# Altium integrated library Atmel Automotive.IntLib: 43 symbols (part 1 of 2)
Pins are listed as number, name and electrical type; pins without a type are passive.

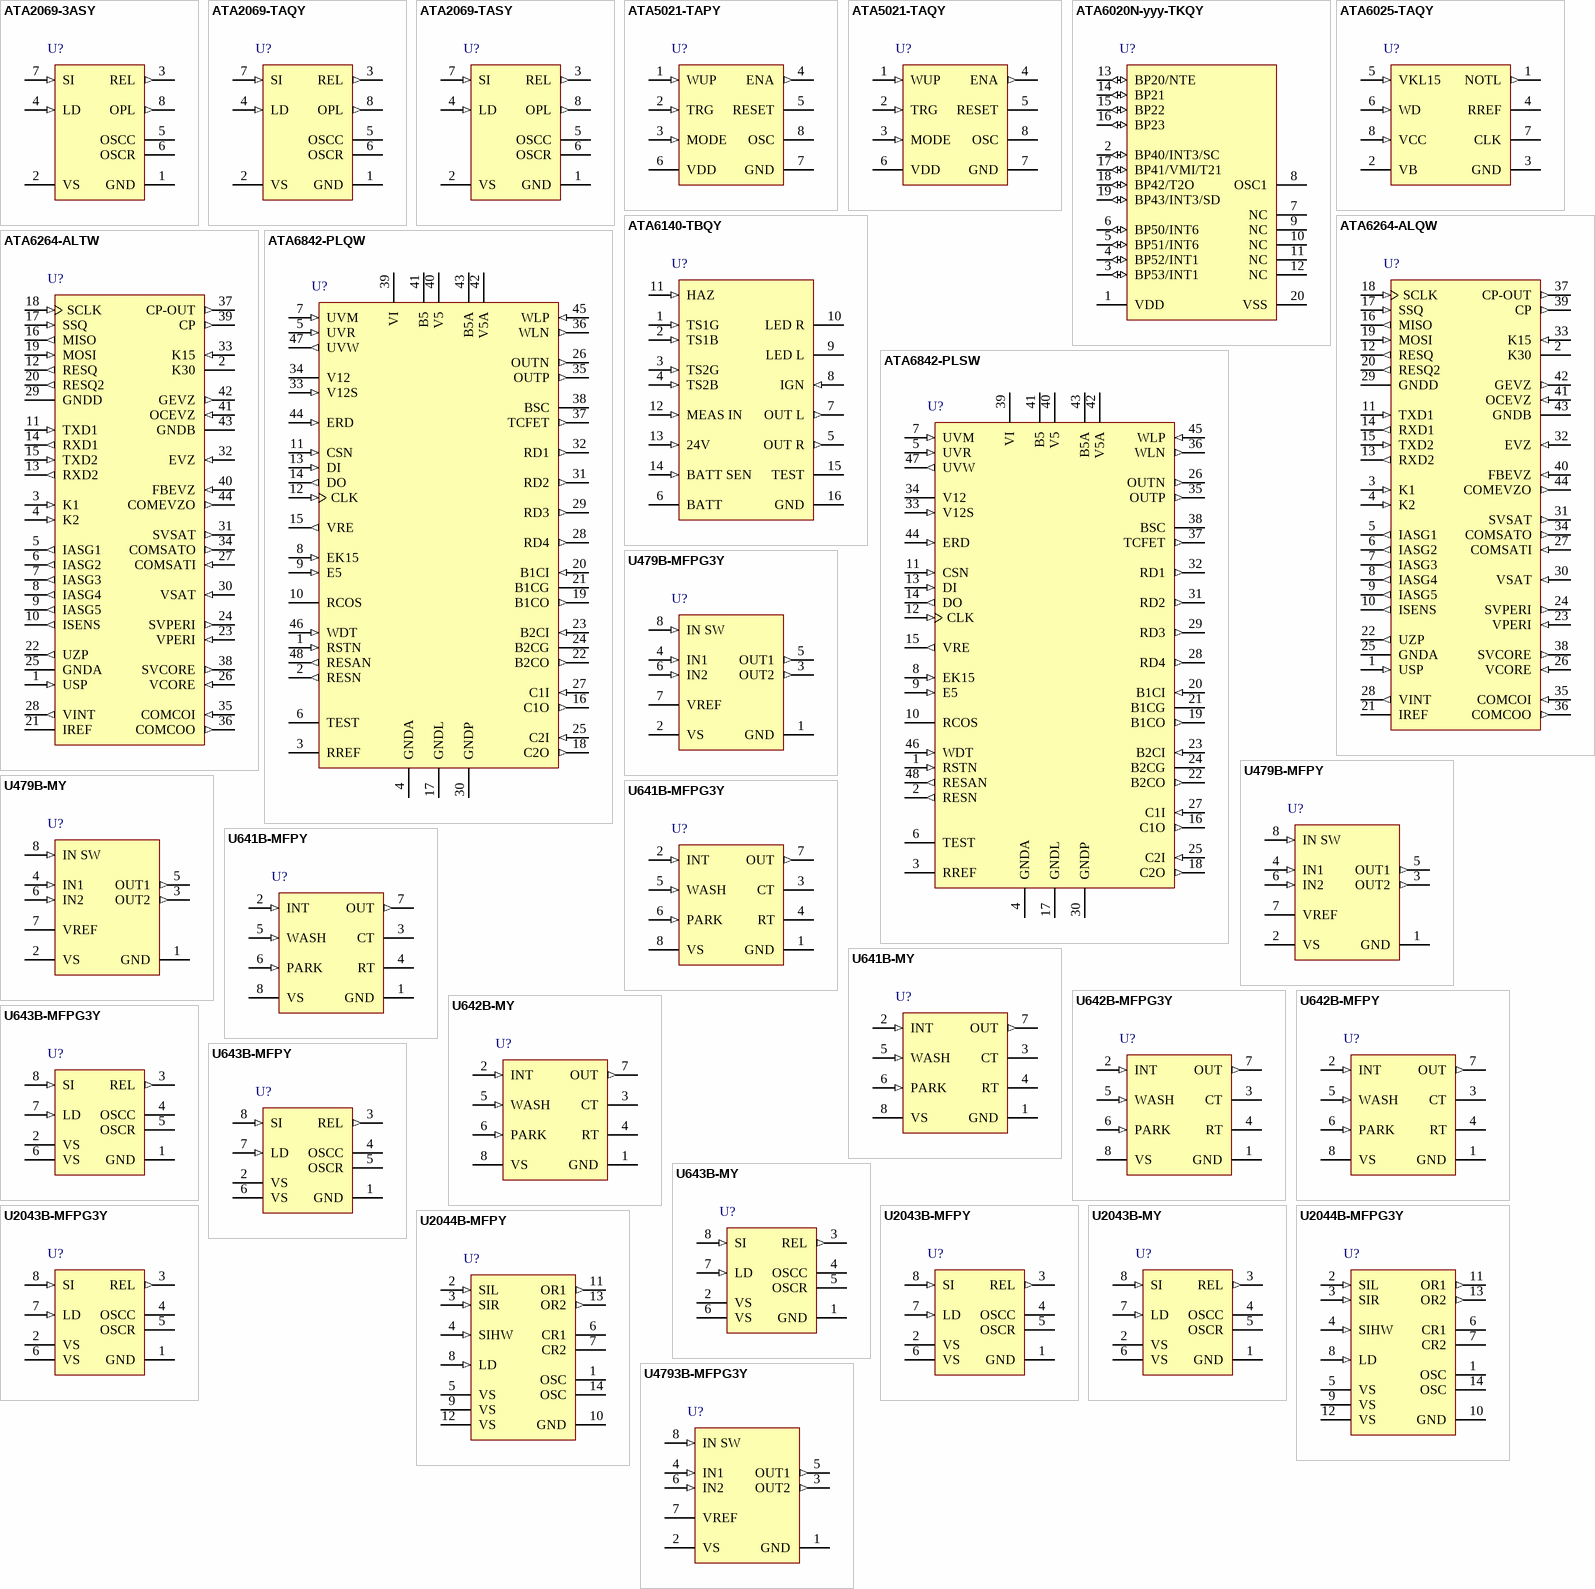
[diagram p0: symbols ATA2069-3ASY to U4793B-MFPG3Y]

## ATA2069-3ASY
designator U?
Flasher with Trailer Control, DIP8 Pkg, Tubed, Pb-Free; Published: 20-Sep-2010; DatasheetVersion: revC, Oct-2007; PackageVersion: rev1, Jan-2002; PackageReference: DIP8; Publisher: Altium Limited; PackageDescription: DIP, 8-Pin, Row Spacing 7.62 mm, Pitch 2.54 mm; Supplier 1: Digi-Key; Supplier Part Number 1: ATA2069-3ASY-ND; Supplier 2: Mouser; Supplier Part Number 2: 556-ATA2069-3ASY; ComponentLink1Description: Manufacturer Link; ComponentLink1URL: http://www.atmel.com/products/auto/default.asp?; ComponentLink2Description: ATA2069 Datasheet; ComponentLink2URL: http://www.atmel.com/dyn/resources/prod_documents/doc4917.pdf; ComponentLink3Description: Atmel.com Home; ComponentLink3URL: http://www.atmel.com
footprint DIP8 (DIP, 8-Leads, Row Spacing 7.62mm, Pitch 2.54mm, Body 9.65x6.3mm)
pins: 1 GND (power), 2 VS (power), 3 REL (out), 4 LD (in), 5 OSCC, 6 OSCR, 7 SI (in), 8 OPL (out)

## ATA2069-TAQY
designator U?
Flasher with Trailer Control, SO8 Pkg, Taped and Reeled, Pb-Free; Published: 20-Sep-2010; DatasheetVersion: revC, Oct-2007; PackageVersion: rev1, Aug-2006; PackageReference: SO8; Publisher: Altium Limited; PackageDescription: 8-Pin Small Outline Integrated Circuit 1.27 mm Pitch; Supplier 1: Digi-Key; Supplier Part Number 1: ATA2069-TAQY-ND; Supplier 2: Mouser; Supplier Part Number 2: 556-ATA2069-TAQY; ComponentLink1Description: Manufacturer Link; ComponentLink1URL: http://www.atmel.com/products/auto/default.asp?; ComponentLink2Description: ATA2069 Datasheet; ComponentLink2URL: http://www.atmel.com/dyn/resources/prod_documents/doc4917.pdf; ComponentLink3Description: Atmel.com Home; ComponentLink3URL: http://www.atmel.com
footprint SO8_N (SOIC, 8-Leads, Body 4.9x3.8mm, Pitch 1.27mm, IPC Medium Density)
footprint SO8_L (SOIC, 8-Leads, Body 4.9x3.8mm, Pitch 1.27mm, IPC High Density)
footprint SO8_M (SOIC, 8-Leads, Body 4.9x3.8mm, Pitch 1.27mm, IPC Low Density)
pins: 1 GND (power), 2 VS (power), 3 REL (out), 4 LD (in), 5 OSCC, 6 OSCR, 7 SI (in), 8 OPL (out)

## ATA2069-TASY
designator U?
Flasher with Trailer Control, SO8 Pkg, Tubed, Pb-Free; Published: 20-Sep-2010; DatasheetVersion: revC, Oct-2007; PackageVersion: rev1, Aug-2006; PackageReference: SO8; Publisher: Altium Limited; PackageDescription: 8-Pin Small Outline Integrated Circuit 1.27 mm Pitch; ComponentLink1Description: Manufacturer Link; ComponentLink1URL: http://www.atmel.com/products/auto/default.asp?; ComponentLink2Description: ATA2069 Datasheet; ComponentLink2URL: http://www.atmel.com/dyn/resources/prod_documents/doc4917.pdf; ComponentLink3Description: Atmel.com Home; ComponentLink3URL: http://www.atmel.com
footprint SO8_N (SOIC, 8-Leads, Body 4.9x3.8mm, Pitch 1.27mm, IPC Medium Density)
footprint SO8_L (SOIC, 8-Leads, Body 4.9x3.8mm, Pitch 1.27mm, IPC High Density)
footprint SO8_M (SOIC, 8-Leads, Body 4.9x3.8mm, Pitch 1.27mm, IPC Low Density)
pins: 1 GND (power), 2 VS (power), 3 REL (out), 4 LD (in), 5 OSCC, 6 OSCR, 7 SI (in), 8 OPL (out)

## ATA5021-TAPY
designator U?
Digital Window Watchdog Timer, SO8 Pkg, Taped and Reeled, Pb-Free, Small Reel; Published: 20-Sep-2010; DatasheetVersion: revC, Sep-2009; PackageVersion: rev1, Aug-2006; PackageReference: SO8; Publisher: Altium Limited; PackageDescription: 8-Pin Small Outline Integrated Circuit 1.27 mm Pitch; Supplier 1: Digi-Key; Supplier Part Number 1: ATA5021-TAPY-ND; Supplier 2: Mouser; Supplier Part Number 2: 556-ATA5021-TAPY; ComponentLink1Description: Manufacturer Link; ComponentLink1URL: http://www.atmel.com/products/auto/default.asp?; ComponentLink2Description: ATA5021 Datasheet; ComponentLink2URL: http://www.atmel.com/dyn/resources/prod_documents/doc9145.pdf; ComponentLink3Description: Atmel.com Home; ComponentLink3URL: http://www.atmel.com
footprint SO8_N (SOIC, 8-Leads, Body 4.9x3.8mm, Pitch 1.27mm, IPC Medium Density)
footprint SO8_L (SOIC, 8-Leads, Body 4.9x3.8mm, Pitch 1.27mm, IPC High Density)
footprint SO8_M (SOIC, 8-Leads, Body 4.9x3.8mm, Pitch 1.27mm, IPC Low Density)
pins: 1 WUP (in), 2 TRG (in), 3 MODE (in), 4 ENA (out), 5 RESET (oc), 6 VDD (power), 7 GND (power), 8 OSC

## ATA5021-TAQY
designator U?
Digital Window Watchdog Timer, SO8 Pkg, Taped and Reeled, Pb-Free, Big Reel; Published: 20-Sep-2010; DatasheetVersion: revC, Sep-2009; PackageVersion: rev1, Aug-2006; PackageReference: SO8; Publisher: Altium Limited; PackageDescription: 8-Pin Small Outline Integrated Circuit 1.27 mm Pitch; Supplier 1: Digi-Key; Supplier Part Number 1: ATA5021-TAQY-ND; Supplier 2: Mouser; Supplier Part Number 2: 556-ATA5021-TAQY; ComponentLink1Description: Manufacturer Link; ComponentLink1URL: http://www.atmel.com/products/auto/default.asp?; ComponentLink2Description: ATA5021 Datasheet; ComponentLink2URL: http://www.atmel.com/dyn/resources/prod_documents/doc9145.pdf; ComponentLink3Description: Atmel.com Home; ComponentLink3URL: http://www.atmel.com
footprint SO8_N (SOIC, 8-Leads, Body 4.9x3.8mm, Pitch 1.27mm, IPC Medium Density)
footprint SO8_L (SOIC, 8-Leads, Body 4.9x3.8mm, Pitch 1.27mm, IPC High Density)
footprint SO8_M (SOIC, 8-Leads, Body 4.9x3.8mm, Pitch 1.27mm, IPC Low Density)
pins: 1 WUP (in), 2 TRG (in), 3 MODE (in), 4 ENA (out), 5 RESET (oc), 6 VDD (power), 7 GND (power), 8 OSC

## ATA6020N-yyy-TKQY
designator U?
Low-Current Microcontroller for Watchdog Function, SSO20 Pkg, Taped and Reeled; Published: 20-Sep-2010; DatasheetVersion: revD, Sep-2005; PackageVersion: 2005; PackageReference: SSO20; Publisher: Altium Limited; PackageDescription: 20-Pin Shrink SOP, 6.6 x 4.4 x 1.3 mm Body, 0.65 mm Pitch; ComponentLink1Description: Manufacturer Link; ComponentLink1URL: http://www.atmel.com/products/auto/default.asp?; ComponentLink2Description: ATA6020N Datasheet; ComponentLink2URL: http://www.atmel.com/dyn/resources/prod_documents/doc4708.pdf; ComponentLink3Description: Atmel.com Home; ComponentLink3URL: http://www.atmel.com
footprint SSO20_N (SOP, 20-Leads, Body 6.6x4.4mm, Pitch 0.65mm, IPC Medium Density)
footprint SSO20_L (SOP, 20-Leads, Body 6.6x4.4mm, Pitch 0.65mm, IPC High Density)
footprint SSO20_M (SOP, 20-Leads, Body 6.6x4.4mm, Pitch 0.65mm, IPC Low Density)
pins: 1 VDD (power), 2 BP40/INT3/SC (io), 3 BP53/INT1 (io), 4 BP52/INT1 (io), 5 BP51/INT6 (io), 6 BP50/INT6 (io), 7 NC, 8 OSC1, 9 NC, 10 NC, 11 NC, 12 NC, 13 BP20/NTE (io), 14 BP21 (io), 15 BP22 (io), 16 BP23 (io), 17 BP41/VMI/T21 (io), 18 BP42/T2O (io), 19 BP43/INT3/SD (io), 20 VSS (power)

## ATA6025-TAQY
designator U?
Watchdog IC with Fail-Safe Out, Voltage Monitors, Low-Power Standby Mode, SO8 Pkg, Taped and Reeled, Pb-Free; Published: 20-Sep-2010; DatasheetVersion: revC, Sep-2005; PackageVersion: rev1, Aug-2006; PackageReference: SO8; Publisher: Altium Limited; PackageDescription: 8-Pin Small Outline Integrated Circuit 1.27 mm Pitch; Supplier 1: Digi-Key; Supplier Part Number 1: ATA6025-TAQY-ND; Supplier 2: Mouser; Supplier Part Number 2: 556-ATA6025TAQY; ComponentLink1Description: Manufacturer Link; ComponentLink1URL: http://www.atmel.com/products/auto/default.asp?; ComponentLink2Description: ATA6025 Datasheet; ComponentLink2URL: http://www.atmel.com/dyn/resources/prod_documents/doc4716.pdf; ComponentLink3Description: Atmel.com Home; ComponentLink3URL: http://www.atmel.com
footprint SO8_N (SOIC, 8-Leads, Body 4.9x3.8mm, Pitch 1.27mm, IPC Medium Density)
footprint SO8_L (SOIC, 8-Leads, Body 4.9x3.8mm, Pitch 1.27mm, IPC High Density)
footprint SO8_M (SOIC, 8-Leads, Body 4.9x3.8mm, Pitch 1.27mm, IPC Low Density)
pins: 1 NOTL (out), 2 VB (power), 3 GND (power), 4 RREF, 5 VKL15 (in), 6 WD (in), 7 CLK (oc), 8 VCC (in)

## ATA6140-TBQY
designator U?
Twin Relay Flasher for 12/24V Applications, SO16 Pkg, Taped and Reeled, Pb-Free; Published: 20-Sep-2010; DatasheetVersion: revE, Sep-2005; PackageVersion: 2007; PackageReference: SO16; Publisher: Altium Limited; PackageDescription: 16-Pin Small Outline Integrated Circuit 1.27 mm Pitch; Supplier 1: Digi-Key; Supplier Part Number 1: ATA6140-TBQY-ND; Supplier 2: Mouser; Supplier Part Number 2: 556-ATA6140TBQY; ComponentLink1Description: Manufacturer Link; ComponentLink1URL: http://www.atmel.com/products/auto/default.asp?; ComponentLink2Description: ATA6140 Datasheet; ComponentLink2URL: http://www.atmel.com/dyn/resources/prod_documents/doc4560.pdf; ComponentLink3Description: Atmel.com Home; ComponentLink3URL: http://www.atmel.com
footprint SO16_N (SOIC, 16-Leads, Body 9.9x3.8mm, Pitch 1.27mm, IPC Medium Density)
footprint SO16_L (SOIC, 16-Leads, Body 9.9x3.8mm, Pitch 1.27mm, IPC High Density)
footprint SO16_M (SOIC, 16-Leads, Body 9.9x3.8mm, Pitch 1.27mm, IPC Low Density)
pins: 1 TS1G (in), 2 TS1B (in), 3 TS2G (in), 4 TS2B (in), 5 OUT R (out), 6 BATT (power), 7 OUT L (out), 8 IGN (in), 9 LED L, 10 LED R, 11 HAZ (in), 12 MEAS IN (in), 13 24V (in), 14 BATT SEN (in), 15 TEST, 16 GND (power)

## ATA6264-ALQW
designator U?
Airbag Power Supply IC, P-TQFP44 Pkg, Taped and Reeled; Published: 20-Sep-2010; DatasheetVersion: revB, Jan-2007; PackageVersion: rev.1, Nov-2006; PackageReference: P-TQFP44; Publisher: Altium Limited; PackageDescription: 44-Pin Thin Quad Flat Pack, 10 x 10 x 1.4 mm Body, 0.8 mm Pitch; Code_JEDEC: MO-112; ComponentLink1Description: Manufacturer Link; ComponentLink1URL: http://www.atmel.com/products/auto/default.asp?; ComponentLink2Description: ATA6264 Datasheet; ComponentLink2URL: http://www.atmel.com/dyn/resources/prod_documents/doc4929.pdf; ComponentLink3Description: Atmel.com Home; ComponentLink3URL: http://www.atmel.com
footprint P-TQFP44_N (Thin QFP, 44-Leads, Body 10x10mm, Pitch 0.8mm, IPC Medium Density)
footprint P-TQFP44_L (Thin QFP, 44-Leads, Body 10x10mm, Pitch 0.8mm, IPC High Density)
footprint P-TQFP44_M (Thin QFP, 44-Leads, Body 10x10mm, Pitch 0.8mm, IPC Low Density)
pins: 1 USP (in) "Comparator input", 2 K30 "Continuous connection to the car battery", 3 K1 (in) "Bus line of 1st ISO9141 interface", 4 K2 (in) "Bus line of 2nd ISO9141 interface", 5 IASG1 (out) "Output of voltage source 1", 6 IASG2 (out) "Output of voltage source 2", 7 IASG3 (out) "Output of voltage source 3", 8 IASG4 (out) "Output of voltage source 4", 9 IASG5 (out) "Output of voltage source 5", 10 ISENS (out) "Output of the current mirror from the IASGx interface", 11 TXD1 (in) "Data input of the 1st ISO9141 interface", 12 RESQ (out) "Reset output", 13 RXD2 (out) "Data output of the 2nd ISO9141 interface", 14 RXD1 (out) "Data output of the 2nd ISO9141 interface", 15 TXD2 (in) "Data input of the 2nd ISO9141 interface", 16 MISO (out) "Data output of the serial interface", 17 SSQ (in) "Chip select of the serial interface", 18 SCLK (in) "Clock input of the serial interface", 19 MOSI (in) "Data input of the serial interface", 20 RESQ2 (out) "Redundant reset output", 21 IREF "Connection for the external reference resistor", 22 UZP (out) "Analog measurement output", 23 VPERI (in) "Input for the VPERI regulator, internally used VPERI supply", 24 SVPERI (out) "Output of VPERI regulator power transistor", 25 GNDA "Analog GND", 26 VCORE (in) "Input for VCORE regulator", 27 COMSATI (in) "Input of the VSAT externally compensated error amplifier", 28 VINT (out) "Output of internal supply voltage", 29 GNDD "Digital GND", 30 VSAT (in) "Input for VSAT regulator, internally used VSAT supply", 31 SVSAT (out) "Output of VSAT regulator power transistor", 32 EVZ (in) "Input for EVZ regulator, internally used EVZ supply", 33 K15 (in) "Connection to car battery via the ignition key", 34 COMSATO (out) "Output of the VSAT externally compensated error amplifier", 35 COMCOI (in) "Input of the VCORE externally compensated error amplifier", 36 COMCOO (out) "Output of the VCORE externally compensated error amplifier", 37 CP-OUT (out) "Switchable output of charge pump voltage", 38 SVCORE (out) "Output of VCORE regulator power transistor", 39 CP (out) "Charge pump output", 40 FBEVZ (in) "Input for external resistor divider to adjust EVZ voltage", 41 OCEVZ (in) "Input for over current measurement of the EVZ regulator", 42 GEVZ (out) "Gate driver output for the external FET of the EVZ regulator", 43 GNDB "GND connection of all power stages", 44 COMEVZO (out) "Output of the EVZ externally compensated error amplifier"

## ATA6264-ALTW
designator U?
Airbag Power Supply IC, P-TQFP44 Pkg, Tray; Published: 20-Sep-2010; DatasheetVersion: revB, Jan-2007; PackageVersion: rev.1, Nov-2006; PackageReference: P-TQFP44; Publisher: Altium Limited; PackageDescription: 44-Pin Thin Quad Flat Pack, 10 x 10 x 1.4 mm Body, 0.8 mm Pitch; Code_JEDEC: MO-112; ComponentLink1Description: Manufacturer Link; ComponentLink1URL: http://www.atmel.com/products/auto/default.asp?; ComponentLink2Description: ATA6264 Datasheet; ComponentLink2URL: http://www.atmel.com/dyn/resources/prod_documents/doc4929.pdf; ComponentLink3Description: Atmel.com Home; ComponentLink3URL: http://www.atmel.com
footprint P-TQFP44_N (Thin QFP, 44-Leads, Body 10x10mm, Pitch 0.8mm, IPC Medium Density)
footprint P-TQFP44_L (Thin QFP, 44-Leads, Body 10x10mm, Pitch 0.8mm, IPC High Density)
footprint P-TQFP44_M (Thin QFP, 44-Leads, Body 10x10mm, Pitch 0.8mm, IPC Low Density)
pins: 1 USP (in) "Comparator input", 2 K30 "Continuous connection to the car battery", 3 K1 (in) "Bus line of 1st ISO9141 interface", 4 K2 (in) "Bus line of 2nd ISO9141 interface", 5 IASG1 (out) "Output of voltage source 1", 6 IASG2 (out) "Output of voltage source 2", 7 IASG3 (out) "Output of voltage source 3", 8 IASG4 (out) "Output of voltage source 4", 9 IASG5 (out) "Output of voltage source 5", 10 ISENS (out) "Output of the current mirror from the IASGx interface", 11 TXD1 (in) "Data input of the 1st ISO9141 interface", 12 RESQ (out) "Reset output", 13 RXD2 (out) "Data output of the 2nd ISO9141 interface", 14 RXD1 (out) "Data output of the 2nd ISO9141 interface", 15 TXD2 (in) "Data input of the 2nd ISO9141 interface", 16 MISO (out) "Data output of the serial interface", 17 SSQ (in) "Chip select of the serial interface", 18 SCLK (in) "Clock input of the serial interface", 19 MOSI (in) "Data input of the serial interface", 20 RESQ2 (out) "Redundant reset output", 21 IREF "Connection for the external reference resistor", 22 UZP (out) "Analog measurement output", 23 VPERI (in) "Input for the VPERI regulator, internally used VPERI supply", 24 SVPERI (out) "Output of VPERI regulator power transistor", 25 GNDA "Analog GND", 26 VCORE (in) "Input for VCORE regulator", 27 COMSATI (in) "Input of the VSAT externally compensated error amplifier", 28 VINT (out) "Output of internal supply voltage", 29 GNDD "Digital GND", 30 VSAT (in) "Input for VSAT regulator, internally used VSAT supply", 31 SVSAT (out) "Output of VSAT regulator power transistor", 32 EVZ (in) "Input for EVZ regulator, internally used EVZ supply", 33 K15 (in) "Connection to car battery via the ignition key", 34 COMSATO (out) "Output of the VSAT externally compensated error amplifier", 35 COMCOI (in) "Input of the VCORE externally compensated error amplifier", 36 COMCOO (out) "Output of the VCORE externally compensated error amplifier", 37 CP-OUT (out) "Switchable output of charge pump voltage", 38 SVCORE (out) "Output of VCORE regulator power transistor", 39 CP (out) "Charge pump output", 40 FBEVZ (in) "Input for external resistor divider to adjust EVZ voltage", 41 OCEVZ (in) "Input for over current measurement of the EVZ regulator", 42 GEVZ (out) "Gate driver output for the external FET of the EVZ regulator", 43 GNDB "GND connection of all power stages", 44 COMEVZO (out) "Output of the EVZ externally compensated error amplifier"

## ATA6842-PLQW
designator U?
Fail-safe System IC with 4-channel Relay Driver, Power Supply, Watchdog, QFN48 Pkg, Taped and Reeled, Pb-Free; Published: 20-Sep-2010; DatasheetVersion: revB, Jul-2007; PackageVersion: 2007; PackageReference: QFN_48; Publisher: Altium Limited; PackageDescription: 48-Pin Very Thin QFN, 7 x 7 mm Body, 0.5 mm Pitch, 4.5 x 4.5 mm Exposed Pad; Supplier 1: Mouser; Supplier Part Number 1: 556-ATA6842-PLQW; Code_JEDEC: MO-220; ComponentLink1Description: Manufacturer Link; ComponentLink1URL: http://www.atmel.com/products/auto/default.asp?; ComponentLink2Description: ATA6842 Datasheet; ComponentLink2URL: http://www.atmel.com/dyn/resources/prod_documents/doc4964.pdf; ComponentLink3Description: Atmel.com Home; ComponentLink3URL: http://www.atmel.com
footprint QFN_48_N (QFN, 48-Leads, Body 7x7mm, Pitch 0.5mm, IPC Medium Density)
footprint QFN_48_L (QFN, 48-Leads, Body 7x7mm, Pitch 0.5mm, IPC High Density)
footprint QFN_48_M (QFN, 48-Leads, Body 7x7mm, Pitch 0.5mm, IPC Low Density)
pins: 1 RSTN (in) "Reset input", 2 RESN (out) "Reset output", 3 RREF "Reference resistor", 4 GNDA "Analog ground", 5 UVR (in) "Undervoltage reference input", 6 TEST "Test", 7 UVM (in) "Undervoltage measurement", 8 EK15 (in) "Enable (K15 based)", 9 E5 (in) "Enable (5V based)", 10 RCOS "Resistor-capacitor oscillator", 11 CSN (in) "Chip-select input", 12 CLK (in) "Clock input", 13 DI (in) "Data input", 14 DO (out) "Data output", 15 VRE (out) "External voltage regulator output", 16 C1O (out) "Comparator 1 output", 17 GNDL "Logic ground", 18 C2O (out) "Comparator 2 output", 19 B1CO (out) "Bridge 1 current output", 20 B1CI (in) "Bridge 1 current input", 21 B1CG "Bridge 1 current ground", 22 B2CO (out) "Bridge 2 current output", 23 B2CI (in) "Bridge 2 current input", 24 B2CG "Bridge 2 current ground", 25 C2I (in) "Comparator 2 input", 26 OUTN (out) "Low-side driver output", 27 C1I (in) "Comparator 1 input", 28 RD4 (out) "Relay driver 4 output", 29 RD3 (out) "Relay driver 3 output", 30 GNDP "Power ground", 31 RD2 (out) "Relay driver 2 output", 32 RD1 (out) "Relay driver 1 output", 33 V12S (in) "12V switch", 34 V12 "12V supply voltage", 35 OUTP (out) "High-side driver output", 36 WLN (out) "Warning lamp output", 37 TCFET (out) "Test current FET", 38 BSC "Bootstrap capacitor", 39 VI "Internal", 40 V5 "5V supply", 41 B5 "Base 5V supply", 42 V5A "Auxiliary 5V supply", 43 B5A "Base auxiliary 5V supply", 44 ERD (in) "Enable relay driver", 45 WLP (in) "Warning lamp polarity input", 46 WDT (in) "Watchdog trigger input", 47 UVW (out) "Undervoltage warning output", 48 RESAN (out) "Auxiliary reset output"

## ATA6842-PLSW
designator U?
Fail-safe System IC with 4-channel Relay Driver, Power Supply, Watchdog, QFN48 Pkg, Tubed, Pb-Free; Published: 20-Sep-2010; DatasheetVersion: revB, Jul-2007; PackageVersion: 2007; PackageReference: QFN_48; Publisher: Altium Limited; PackageDescription: 48-Pin Very Thin QFN, 7 x 7 mm Body, 0.5 mm Pitch, 4.5 x 4.5 mm Exposed Pad; Code_JEDEC: MO-220; ComponentLink1Description: Manufacturer Link; ComponentLink1URL: http://www.atmel.com/products/auto/default.asp?; ComponentLink2Description: ATA6842 Datasheet; ComponentLink2URL: http://www.atmel.com/dyn/resources/prod_documents/doc4964.pdf; ComponentLink3Description: Atmel.com Home; ComponentLink3URL: http://www.atmel.com
footprint QFN_48_N (QFN, 48-Leads, Body 7x7mm, Pitch 0.5mm, IPC Medium Density)
footprint QFN_48_L (QFN, 48-Leads, Body 7x7mm, Pitch 0.5mm, IPC High Density)
footprint QFN_48_M (QFN, 48-Leads, Body 7x7mm, Pitch 0.5mm, IPC Low Density)
pins: 1 RSTN (in) "Reset input", 2 RESN (out) "Reset output", 3 RREF "Reference resistor", 4 GNDA "Analog ground", 5 UVR (in) "Undervoltage reference input", 6 TEST "Test", 7 UVM (in) "Undervoltage measurement", 8 EK15 (in) "Enable (K15 based)", 9 E5 (in) "Enable (5V based)", 10 RCOS "Resistor-capacitor oscillator", 11 CSN (in) "Chip-select input", 12 CLK (in) "Clock input", 13 DI (in) "Data input", 14 DO (out) "Data output", 15 VRE (out) "External voltage regulator output", 16 C1O (out) "Comparator 1 output", 17 GNDL "Logic ground", 18 C2O (out) "Comparator 2 output", 19 B1CO (out) "Bridge 1 current output", 20 B1CI (in) "Bridge 1 current input", 21 B1CG "Bridge 1 current ground", 22 B2CO (out) "Bridge 2 current output", 23 B2CI (in) "Bridge 2 current input", 24 B2CG "Bridge 2 current ground", 25 C2I (in) "Comparator 2 input", 26 OUTN (out) "Low-side driver output", 27 C1I (in) "Comparator 1 input", 28 RD4 (out) "Relay driver 4 output", 29 RD3 (out) "Relay driver 3 output", 30 GNDP "Power ground", 31 RD2 (out) "Relay driver 2 output", 32 RD1 (out) "Relay driver 1 output", 33 V12S (in) "12V switch", 34 V12 "12V supply voltage", 35 OUTP (out) "High-side driver output", 36 WLN (out) "Warning lamp output", 37 TCFET (out) "Test current FET", 38 BSC "Bootstrap capacitor", 39 VI "Internal", 40 V5 "5V supply", 41 B5 "Base 5V supply", 42 V5A "Auxiliary 5V supply", 43 B5A "Base auxiliary 5V supply", 44 ERD (in) "Enable relay driver", 45 WLP (in) "Warning lamp polarity input", 46 WDT (in) "Watchdog trigger input", 47 UVW (out) "Undervoltage warning output", 48 RESAN (out) "Auxiliary reset output"

## U479B-MFPG3Y
designator U?
Automotive Lamp-Outage Monitor IC, SO8 Pkg, Taped and Reeled, Pb-Free; Published: 20-Sep-2010; DatasheetVersion: revB, Sep-2005; PackageVersion: rev1, Aug-2006; PackageReference: SO8; Publisher: Altium Limited; PackageDescription: 8-Pin Small Outline Integrated Circuit 1.27 mm Pitch; Supplier 1: Digi-Key; Supplier Part Number 1: U479B-MFPG3Y-ND; Supplier 2: Mouser; Supplier Part Number 2: 556-U479B-MFPG3Y; ComponentLink1Description: Manufacturer Link; ComponentLink1URL: http://www.atmel.com/products/auto/default.asp?; ComponentLink2Description: U479B Datasheet; ComponentLink2URL: http://www.atmel.com/dyn/resources/prod_documents/doc4775.pdf; ComponentLink3Description: Atmel.com Home; ComponentLink3URL: http://www.atmel.com
footprint SO8_N (SOIC, 8-Leads, Body 4.9x3.8mm, Pitch 1.27mm, IPC Medium Density)
footprint SO8_L (SOIC, 8-Leads, Body 4.9x3.8mm, Pitch 1.27mm, IPC High Density)
footprint SO8_M (SOIC, 8-Leads, Body 4.9x3.8mm, Pitch 1.27mm, IPC Low Density)
pins: 1 GND (power), 2 VS (power), 3 OUT2 (out), 4 IN1 (in), 5 OUT1 (out), 6 IN2 (in), 7 VREF (power), 8 IN SW (in)

## U479B-MFPY
designator U?
Automotive Lamp-Outage Monitor IC, SO8 Pkg, Tubed, Pb-Free; Published: 20-Sep-2010; DatasheetVersion: revB, Sep-2005; PackageVersion: rev1, Aug-2006; PackageReference: SO8; Publisher: Altium Limited; PackageDescription: 8-Pin Small Outline Integrated Circuit 1.27 mm Pitch; Supplier 1: Digi-Key; Supplier Part Number 1: U479B-MFPY-ND; Supplier 2: Mouser; Supplier Part Number 2: 556-U479B-MFPY; ComponentLink1Description: Manufacturer Link; ComponentLink1URL: http://www.atmel.com/products/auto/default.asp?; ComponentLink2Description: U479B Datasheet; ComponentLink2URL: http://www.atmel.com/dyn/resources/prod_documents/doc4775.pdf; ComponentLink3Description: Atmel.com Home; ComponentLink3URL: http://www.atmel.com
footprint SO8_N (SOIC, 8-Leads, Body 4.9x3.8mm, Pitch 1.27mm, IPC Medium Density)
footprint SO8_L (SOIC, 8-Leads, Body 4.9x3.8mm, Pitch 1.27mm, IPC High Density)
footprint SO8_M (SOIC, 8-Leads, Body 4.9x3.8mm, Pitch 1.27mm, IPC Low Density)
pins: 1 GND (power), 2 VS (power), 3 OUT2 (out), 4 IN1 (in), 5 OUT1 (out), 6 IN2 (in), 7 VREF (power), 8 IN SW (in)

## U479B-MY
designator U?
Automotive Lamp-Outage Monitor IC, DIP8 Pkg, Pb-Free; Published: 20-Sep-2010; DatasheetVersion: revB, Sep-2005; PackageVersion: rev1, Jan-2002; PackageReference: DIP8; Publisher: Altium Limited; PackageDescription: DIP, 8-Pin, Row Spacing 7.62 mm, Pitch 2.54 mm; Supplier 1: Digi-Key; Supplier Part Number 1: U479B-MY-ND; Supplier 2: Mouser; Supplier Part Number 2: 556-U479BMY; ComponentLink1Description: Manufacturer Link; ComponentLink1URL: http://www.atmel.com/products/auto/default.asp?; ComponentLink2Description: U479B Datasheet; ComponentLink2URL: http://www.atmel.com/dyn/resources/prod_documents/doc4775.pdf; ComponentLink3Description: Atmel.com Home; ComponentLink3URL: http://www.atmel.com
footprint DIP8 (DIP, 8-Leads, Row Spacing 7.62mm, Pitch 2.54mm, Body 9.65x6.3mm)
pins: 1 GND (power), 2 VS (power), 3 OUT2 (out), 4 IN1 (in), 5 OUT1 (out), 6 IN2 (in), 7 VREF (power), 8 IN SW (in)

## U641B-MFPG3Y
designator U?
Wipe/Wash Control with Prewash Delay, INT/WIWA Switches to VBATT, SO8 Pkg, Taped and Reeled, Pb-Free; Published: 20-Sep-2010; DatasheetVersion: revC, Oct-2007; PackageVersion: rev1, Aug-2006; PackageReference: SO8; Publisher: Altium Limited; PackageDescription: 8-Pin Small Outline Integrated Circuit 1.27 mm Pitch; Supplier 1: Digi-Key; Supplier Part Number 1: U641B-MFPG3Y-ND; Supplier 2: Mouser; Supplier Part Number 2: 556-U641BMFPG3Y; ComponentLink1Description: Manufacturer Link; ComponentLink1URL: http://www.atmel.com/products/auto/default.asp?; ComponentLink2Description: U641B Datasheet; ComponentLink2URL: http://www.atmel.com/dyn/resources/prod_documents/doc4773.pdf; ComponentLink3Description: Atmel.com Home; ComponentLink3URL: http://www.atmel.com
footprint SO8_N (SOIC, 8-Leads, Body 4.9x3.8mm, Pitch 1.27mm, IPC Medium Density)
footprint SO8_L (SOIC, 8-Leads, Body 4.9x3.8mm, Pitch 1.27mm, IPC High Density)
footprint SO8_M (SOIC, 8-Leads, Body 4.9x3.8mm, Pitch 1.27mm, IPC Low Density)
pins: 1 GND (power), 2 INT (in), 3 CT, 4 RT, 5 WASH (in), 6 PARK (in), 7 OUT (out), 8 VS (power)

## U641B-MFPY
designator U?
Wipe/Wash Control with Prewash Delay, INT/WIWA Switches to VBATT, SO8 Pkg, Tubed, Pb-Free; Published: 20-Sep-2010; DatasheetVersion: revC, Oct-2007; PackageVersion: rev1, Aug-2006; PackageReference: SO8; Publisher: Altium Limited; PackageDescription: 8-Pin Small Outline Integrated Circuit 1.27 mm Pitch; Supplier 1: Mouser; Supplier Part Number 1: 556-U641BMFPY; ComponentLink1Description: Manufacturer Link; ComponentLink1URL: http://www.atmel.com/products/auto/default.asp?; ComponentLink2Description: U641B Datasheet; ComponentLink2URL: http://www.atmel.com/dyn/resources/prod_documents/doc4773.pdf; ComponentLink3Description: Atmel.com Home; ComponentLink3URL: http://www.atmel.com
footprint SO8_N (SOIC, 8-Leads, Body 4.9x3.8mm, Pitch 1.27mm, IPC Medium Density)
footprint SO8_L (SOIC, 8-Leads, Body 4.9x3.8mm, Pitch 1.27mm, IPC High Density)
footprint SO8_M (SOIC, 8-Leads, Body 4.9x3.8mm, Pitch 1.27mm, IPC Low Density)
pins: 1 GND (power), 2 INT (in), 3 CT, 4 RT, 5 WASH (in), 6 PARK (in), 7 OUT (out), 8 VS (power)

## U641B-MY
designator U?
Wipe/Wash Control with Prewash Delay, INT/WIWA Switches to VBATT, DIP8 Pkg, Pb-Free; Published: 20-Sep-2010; DatasheetVersion: revC, Oct-2007; PackageVersion: rev1, Jan-2002; PackageReference: DIP8; Publisher: Altium Limited; PackageDescription: DIP, 8-Pin, Row Spacing 7.62 mm, Pitch 2.54 mm; Supplier 1: Digi-Key; Supplier Part Number 1: U641B-MY-ND; Supplier 2: Mouser; Supplier Part Number 2: 556-U641BMY; ComponentLink1Description: Manufacturer Link; ComponentLink1URL: http://www.atmel.com/products/auto/default.asp?; ComponentLink2Description: U641B Datasheet; ComponentLink2URL: http://www.atmel.com/dyn/resources/prod_documents/doc4773.pdf; ComponentLink3Description: Atmel.com Home; ComponentLink3URL: http://www.atmel.com
footprint DIP8 (DIP, 8-Leads, Row Spacing 7.62mm, Pitch 2.54mm, Body 9.65x6.3mm)
pins: 1 GND (power), 2 INT (in), 3 CT, 4 RT, 5 WASH (in), 6 PARK (in), 7 OUT (out), 8 VS (power)

## U642B-MFPG3Y
designator U?
Wipe/Wash Control without Prewash Delay, INT/WIWA Switches to VBATT, SO8 Pkg, Taped and Reeled, Pb-Free; Published: 20-Sep-2010; DatasheetVersion: revC, Oct-2007; PackageVersion: rev1, Aug-2006; PackageReference: SO8; Publisher: Altium Limited; PackageDescription: 8-Pin Small Outline Integrated Circuit 1.27 mm Pitch; Supplier 1: Digi-Key; Supplier Part Number 1: U642B-MFPG3Y-ND; Supplier 2: Mouser; Supplier Part Number 2: 556-U642BMFPG3Y; ComponentLink1Description: Manufacturer Link; ComponentLink1URL: http://www.atmel.com/products/auto/default.asp?; ComponentLink2Description: U642B Datasheet; ComponentLink2URL: http://www.atmel.com/dyn/resources/prod_documents/doc4774.pdf; ComponentLink3Description: Atmel.com Home; ComponentLink3URL: http://www.atmel.com
footprint SO8_N (SOIC, 8-Leads, Body 4.9x3.8mm, Pitch 1.27mm, IPC Medium Density)
footprint SO8_L (SOIC, 8-Leads, Body 4.9x3.8mm, Pitch 1.27mm, IPC High Density)
footprint SO8_M (SOIC, 8-Leads, Body 4.9x3.8mm, Pitch 1.27mm, IPC Low Density)
pins: 1 GND (power), 2 INT (in), 3 CT, 4 RT, 5 WASH (in), 6 PARK (in), 7 OUT (out), 8 VS (power)

## U642B-MFPY
designator U?
Wipe/Wash Control without Prewash Delay, INT/WIWA Switches to VBATT, SO8 Pkg, Tubed, Pb-Free; Published: 20-Sep-2010; DatasheetVersion: revC, Oct-2007; PackageVersion: rev1, Aug-2006; PackageReference: SO8; Publisher: Altium Limited; PackageDescription: 8-Pin Small Outline Integrated Circuit 1.27 mm Pitch; Supplier 1: Mouser; Supplier Part Number 1: 556-U642BMFPY; ComponentLink1Description: Manufacturer Link; ComponentLink1URL: http://www.atmel.com/products/auto/default.asp?; ComponentLink2Description: U642B Datasheet; ComponentLink2URL: http://www.atmel.com/dyn/resources/prod_documents/doc4774.pdf; ComponentLink3Description: Atmel.com Home; ComponentLink3URL: http://www.atmel.com
footprint SO8_N (SOIC, 8-Leads, Body 4.9x3.8mm, Pitch 1.27mm, IPC Medium Density)
footprint SO8_L (SOIC, 8-Leads, Body 4.9x3.8mm, Pitch 1.27mm, IPC High Density)
footprint SO8_M (SOIC, 8-Leads, Body 4.9x3.8mm, Pitch 1.27mm, IPC Low Density)
pins: 1 GND (power), 2 INT (in), 3 CT, 4 RT, 5 WASH (in), 6 PARK (in), 7 OUT (out), 8 VS (power)

## U642B-MY
designator U?
Wipe/Wash Control without Prewash Delay, INT/WIWA Switches to VBATT, DIP8 Pkg, Pb-Free; Published: 20-Sep-2010; DatasheetVersion: revC, Oct-2007; PackageVersion: rev1, Jan-2002; PackageReference: DIP8; Publisher: Altium Limited; PackageDescription: DIP, 8-Pin, Row Spacing 7.62 mm, Pitch 2.54 mm; Supplier 1: Digi-Key; Supplier Part Number 1: U642B-MY-ND; Supplier 2: Mouser; Supplier Part Number 2: 556-U642BMY; ComponentLink1Description: Manufacturer Link; ComponentLink1URL: http://www.atmel.com/products/auto/default.asp?; ComponentLink2Description: U642B Datasheet; ComponentLink2URL: http://www.atmel.com/dyn/resources/prod_documents/doc4774.pdf; ComponentLink3Description: Atmel.com Home; ComponentLink3URL: http://www.atmel.com
footprint DIP8 (DIP, 8-Leads, Row Spacing 7.62mm, Pitch 2.54mm, Body 9.65x6.3mm)
pins: 1 GND (power), 2 INT (in), 3 CT, 4 RT, 5 WASH (in), 6 PARK (in), 7 OUT (out), 8 VS (power)

## U643B-MFPG3Y
designator U?
Flasher IC with 30-mO Shunt, SO8 Pkg, Taped and Reeled, Pb-Free; Published: 20-Sep-2010; DatasheetVersion: revB, Sep-2005; PackageVersion: rev1, Aug-2006; PackageReference: SO8; Publisher: Altium Limited; PackageDescription: 8-Pin Small Outline Integrated Circuit 1.27 mm Pitch; Supplier 1: Digi-Key; Supplier Part Number 1: U643B-MFPG3Y-ND; Supplier 2: Mouser; Supplier Part Number 2: 556-U643BMFPG3Y; ComponentLink1Description: Manufacturer Link; ComponentLink1URL: http://www.atmel.com/products/auto/default.asp?; ComponentLink2Description: U643B Datasheet; ComponentLink2URL: http://www.atmel.com/dyn/resources/prod_documents/doc4727.pdf; ComponentLink3Description: Atmel.com Home; ComponentLink3URL: http://www.atmel.com
footprint SO8_N (SOIC, 8-Leads, Body 4.9x3.8mm, Pitch 1.27mm, IPC Medium Density)
footprint SO8_L (SOIC, 8-Leads, Body 4.9x3.8mm, Pitch 1.27mm, IPC High Density)
footprint SO8_M (SOIC, 8-Leads, Body 4.9x3.8mm, Pitch 1.27mm, IPC Low Density)
pins: 1 GND (power), 2 VS (power), 3 REL (out), 4 OSCC, 5 OSCR, 6 VS (power), 7 LD (in), 8 SI (in)

## U643B-MFPY
designator U?
Flasher IC with 30-mO Shunt, SO8 Pkg, Tubed, Pb-Free; Published: 20-Sep-2010; DatasheetVersion: revB, Sep-2005; PackageVersion: rev1, Aug-2006; PackageReference: SO8; Publisher: Altium Limited; PackageDescription: 8-Pin Small Outline Integrated Circuit 1.27 mm Pitch; Supplier 1: Mouser; Supplier Part Number 1: 556-U643BMFPY; ComponentLink1Description: Manufacturer Link; ComponentLink1URL: http://www.atmel.com/products/auto/default.asp?; ComponentLink2Description: U643B Datasheet; ComponentLink2URL: http://www.atmel.com/dyn/resources/prod_documents/doc4727.pdf; ComponentLink3Description: Atmel.com Home; ComponentLink3URL: http://www.atmel.com
footprint SO8_N (SOIC, 8-Leads, Body 4.9x3.8mm, Pitch 1.27mm, IPC Medium Density)
footprint SO8_L (SOIC, 8-Leads, Body 4.9x3.8mm, Pitch 1.27mm, IPC High Density)
footprint SO8_M (SOIC, 8-Leads, Body 4.9x3.8mm, Pitch 1.27mm, IPC Low Density)
pins: 1 GND (power), 2 VS (power), 3 REL (out), 4 OSCC, 5 OSCR, 6 VS (power), 7 LD (in), 8 SI (in)

## U643B-MY
designator U?
Flasher IC with 30-mO Shunt, DIP8 Pkg, Pb-Free; Published: 20-Sep-2010; DatasheetVersion: revB, Sep-2005; PackageVersion: rev1, Jan-2002; PackageReference: DIP8; Publisher: Altium Limited; PackageDescription: DIP, 8-Pin, Row Spacing 7.62 mm, Pitch 2.54 mm; Supplier 1: Digi-Key; Supplier Part Number 1: U643B-MY-ND; Supplier 2: Mouser; Supplier Part Number 2: 556-U643BMY; ComponentLink1Description: Manufacturer Link; ComponentLink1URL: http://www.atmel.com/products/auto/default.asp?; ComponentLink2Description: U643B Datasheet; ComponentLink2URL: http://www.atmel.com/dyn/resources/prod_documents/doc4727.pdf; ComponentLink3Description: Atmel.com Home; ComponentLink3URL: http://www.atmel.com
footprint DIP8 (DIP, 8-Leads, Row Spacing 7.62mm, Pitch 2.54mm, Body 9.65x6.3mm)
pins: 1 GND (power), 2 VS (power), 3 REL (out), 4 OSCC, 5 OSCR, 6 VS (power), 7 LD (in), 8 SI (in)

## U2043B-MFPG3Y
designator U?
Flasher, 30 mO Shunt, Pilot Lamp to GND or Vbatt, SO8 Pkg, Taped and Reeled, Pb-Free; Published: 20-Sep-2010; DatasheetVersion: revB, Sep-2005; PackageVersion: rev1, Aug-2006; PackageReference: SO8; Publisher: Altium Limited; PackageDescription: 8-Pin Small Outline Integrated Circuit 1.27 mm Pitch; Supplier 1: Digi-Key; Supplier Part Number 1: U2043B-MFPG3Y-ND; Supplier 2: Mouser; Supplier Part Number 2: 556-U2043BMFPG3Y; ComponentLink1Description: Manufacturer Link; ComponentLink1URL: http://www.atmel.com/products/auto/default.asp?; ComponentLink2Description: U2043B Datasheet; ComponentLink2URL: http://www.atmel.com/dyn/resources/prod_documents/doc4720.pdf; ComponentLink3Description: Atmel.com Home; ComponentLink3URL: http://www.atmel.com
footprint SO8_N (SOIC, 8-Leads, Body 4.9x3.8mm, Pitch 1.27mm, IPC Medium Density)
footprint SO8_L (SOIC, 8-Leads, Body 4.9x3.8mm, Pitch 1.27mm, IPC High Density)
footprint SO8_M (SOIC, 8-Leads, Body 4.9x3.8mm, Pitch 1.27mm, IPC Low Density)
pins: 1 GND (power), 2 VS (power), 3 REL (out), 4 OSCC, 5 OSCR, 6 VS (power), 7 LD (in), 8 SI (in)

## U2043B-MFPY
designator U?
Flasher, 30 mO Shunt, Pilot Lamp to GND or Vbatt, SO8 Pkg, Tubed, Pb-Free; Published: 20-Sep-2010; DatasheetVersion: revB, Sep-2005; PackageVersion: rev1, Aug-2006; PackageReference: SO8; Publisher: Altium Limited; PackageDescription: 8-Pin Small Outline Integrated Circuit 1.27 mm Pitch; Supplier 1: Digi-Key; Supplier Part Number 1: U2043B-MFPY-ND; Supplier 2: Mouser; Supplier Part Number 2: 556-U2043BMFPY; ComponentLink1Description: Manufacturer Link; ComponentLink1URL: http://www.atmel.com/products/auto/default.asp?; ComponentLink2Description: U2043B Datasheet; ComponentLink2URL: http://www.atmel.com/dyn/resources/prod_documents/doc4720.pdf; ComponentLink3Description: Atmel.com Home; ComponentLink3URL: http://www.atmel.com
footprint SO8_N (SOIC, 8-Leads, Body 4.9x3.8mm, Pitch 1.27mm, IPC Medium Density)
footprint SO8_L (SOIC, 8-Leads, Body 4.9x3.8mm, Pitch 1.27mm, IPC High Density)
footprint SO8_M (SOIC, 8-Leads, Body 4.9x3.8mm, Pitch 1.27mm, IPC Low Density)
pins: 1 GND (power), 2 VS (power), 3 REL (out), 4 OSCC, 5 OSCR, 6 VS (power), 7 LD (in), 8 SI (in)

## U2043B-MY
designator U?
Flasher, 30 mO Shunt, Pilot Lamp to GND or Vbatt, DIP8 Pkg, Pb-Free; Published: 20-Sep-2010; DatasheetVersion: revB, Sep-2005; PackageVersion: rev1, Jan-2002; PackageReference: DIP8; Publisher: Altium Limited; PackageDescription: DIP, 8-Pin, Row Spacing 7.62 mm, Pitch 2.54 mm; Supplier 1: Digi-Key; Supplier Part Number 1: U2043B-MY-ND; Supplier 2: Mouser; Supplier Part Number 2: 556-U2043BMY; ComponentLink1Description: Manufacturer Link; ComponentLink1URL: http://www.atmel.com/products/auto/default.asp?; ComponentLink2Description: U2043B Datasheet; ComponentLink2URL: http://www.atmel.com/dyn/resources/prod_documents/doc4720.pdf; ComponentLink3Description: Atmel.com Home; ComponentLink3URL: http://www.atmel.com
footprint DIP8 (DIP, 8-Leads, Row Spacing 7.62mm, Pitch 2.54mm, Body 9.65x6.3mm)
pins: 1 GND (power), 2 VS (power), 3 REL (out), 4 OSCC, 5 OSCR, 6 VS (power), 7 LD (in), 8 SI (in)

## U2044B-MFPG3Y
designator U?
Twin Relay Flasher, SO14 Pkg, Taped and Reeled, Pb-Free; Published: 20-Sep-2010; DatasheetVersion: revC, Feb-2008; PackageVersion: 2008; PackageReference: SO14; Publisher: Altium Limited; PackageDescription: 14-Pin Small Outline Package, 8.75 x 3.87 x 1.4 mm Body, 1.27 mm Pitch (SO 14); Supplier 1: Digi-Key; Supplier Part Number 1: U2044B-MFPG3Y-ND; Supplier 2: Mouser; Supplier Part Number 2: 556-U2044BMFPG3Y; Code_IPC: SOIC127P600-14; ComponentLink1Description: Manufacturer Link; ComponentLink1URL: http://www.atmel.com/products/auto/default.asp?; ComponentLink2Description: U2044B Datasheet; ComponentLink2URL: http://www.atmel.com/dyn/resources/prod_documents/doc4721.pdf; ComponentLink3Description: Atmel.com Home; ComponentLink3URL: http://www.atmel.com
footprint SO14_N (SOIC, 14-Leads, Body 8.7x3.9mm, Pitch 1.27mm, IPC Medium Density)
footprint SO14_L (SOIC, 14-Leads, Body 8.7x3.9mm, Pitch 1.27mm, IPC High Density)
footprint SO14_M (SOIC, 14-Leads, Body 8.7x3.9mm, Pitch 1.27mm, IPC Low Density)
pins: 1 OSC, 2 SIL (in), 3 SIR (in), 4 SIHW (in), 5 VS (power), 6 CR1, 7 CR2, 8 LD (in), 9 VS (power), 10 GND (power), 11 OR1 (out), 12 VS (power), 13 OR2 (out), 14 OSC

## U2044B-MFPY
designator U?
Twin Relay Flasher, SO14 Pkg, Tubed, Pb-Free; Published: 20-Sep-2010; DatasheetVersion: revC, Feb-2008; PackageVersion: 2008; PackageReference: SO14; Publisher: Altium Limited; PackageDescription: 14-Pin Small Outline Package, 8.75 x 3.87 x 1.4 mm Body, 1.27 mm Pitch (SO 14); Supplier 1: Mouser; Supplier Part Number 1: 556-U2044BMFPY; Code_IPC: SOIC127P600-14; ComponentLink1Description: Manufacturer Link; ComponentLink1URL: http://www.atmel.com/products/auto/default.asp?; ComponentLink2Description: U2044B Datasheet; ComponentLink2URL: http://www.atmel.com/dyn/resources/prod_documents/doc4721.pdf; ComponentLink3Description: Atmel.com Home; ComponentLink3URL: http://www.atmel.com
footprint SO14_N (SOIC, 14-Leads, Body 8.7x3.9mm, Pitch 1.27mm, IPC Medium Density)
footprint SO14_L (SOIC, 14-Leads, Body 8.7x3.9mm, Pitch 1.27mm, IPC High Density)
footprint SO14_M (SOIC, 14-Leads, Body 8.7x3.9mm, Pitch 1.27mm, IPC Low Density)
pins: 1 OSC, 2 SIL (in), 3 SIR (in), 4 SIHW (in), 5 VS (power), 6 CR1, 7 CR2, 8 LD (in), 9 VS (power), 10 GND (power), 11 OR1 (out), 12 VS (power), 13 OR2 (out), 14 OSC

## U4793B-MFPG3Y
designator U?
Current Monitor IC, SO8 Pkg, Taped and Reeled, Pb-Free; Published: 20-Sep-2010; DatasheetVersion: revB, Sep-2005; PackageVersion: rev1, Aug-2006; PackageReference: SO8; Publisher: Altium Limited; PackageDescription: 8-Pin Small Outline Integrated Circuit 1.27 mm Pitch; Supplier 1: Digi-Key; Supplier Part Number 1: U4793B-MFPG3Y-ND; Supplier 2: Mouser; Supplier Part Number 2: 556-U4793BMFPG3Y; ComponentLink1Description: Manufacturer Link; ComponentLink1URL: http://www.atmel.com/products/auto/default.asp?; ComponentLink2Description: U4793B Datasheet; ComponentLink2URL: http://www.atmel.com/dyn/resources/prod_documents/doc4557.pdf; ComponentLink3Description: Atmel.com Home; ComponentLink3URL: http://www.atmel.com
footprint SO8_N (SOIC, 8-Leads, Body 4.9x3.8mm, Pitch 1.27mm, IPC Medium Density)
footprint SO8_L (SOIC, 8-Leads, Body 4.9x3.8mm, Pitch 1.27mm, IPC High Density)
footprint SO8_M (SOIC, 8-Leads, Body 4.9x3.8mm, Pitch 1.27mm, IPC Low Density)
pins: 1 GND (power), 2 VS (power), 3 OUT2 (out), 4 IN1 (in), 5 OUT1 (out), 6 IN2 (in), 7 VREF (power), 8 IN SW (in)

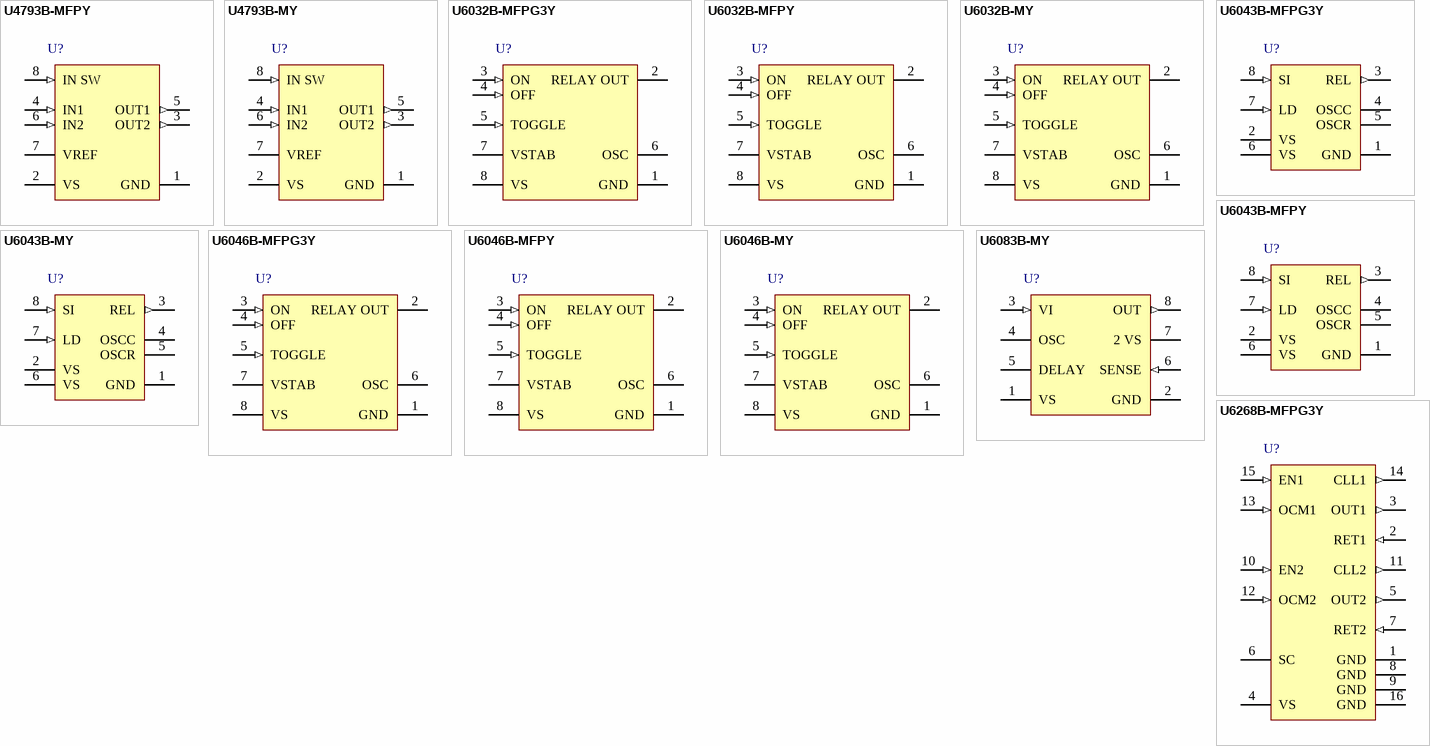
[diagram p1: symbols U4793B-MFPY to U6268B-MFPG3Y]

## U4793B-MFPY
designator U?
Current Monitor IC, SO8 Pkg, Tubed, Pb-Free; Published: 20-Sep-2010; DatasheetVersion: revB, Sep-2005; PackageVersion: rev1, Aug-2006; PackageReference: SO8; Publisher: Altium Limited; PackageDescription: 8-Pin Small Outline Integrated Circuit 1.27 mm Pitch; Supplier 1: Mouser; Supplier Part Number 1: 556-U4793BMFPY; ComponentLink1Description: Manufacturer Link; ComponentLink1URL: http://www.atmel.com/products/auto/default.asp?; ComponentLink2Description: U4793B Datasheet; ComponentLink2URL: http://www.atmel.com/dyn/resources/prod_documents/doc4557.pdf; ComponentLink3Description: Atmel.com Home; ComponentLink3URL: http://www.atmel.com
footprint SO8_N (SOIC, 8-Leads, Body 4.9x3.8mm, Pitch 1.27mm, IPC Medium Density)
footprint SO8_L (SOIC, 8-Leads, Body 4.9x3.8mm, Pitch 1.27mm, IPC High Density)
footprint SO8_M (SOIC, 8-Leads, Body 4.9x3.8mm, Pitch 1.27mm, IPC Low Density)
pins: 1 GND (power), 2 VS (power), 3 OUT2 (out), 4 IN1 (in), 5 OUT1 (out), 6 IN2 (in), 7 VREF (power), 8 IN SW (in)

## U4793B-MY
designator U?
Current Monitor IC, DIP8 Pkg, Pb-Free; Published: 20-Sep-2010; DatasheetVersion: revB, Sep-2005; PackageVersion: rev1, Jan-2002; PackageReference: DIP8; Publisher: Altium Limited; PackageDescription: DIP, 8-Pin, Row Spacing 7.62 mm, Pitch 2.54 mm; Supplier 1: Digi-Key; Supplier Part Number 1: U4793B-MY-ND; Supplier 2: Mouser; Supplier Part Number 2: 556-U4793BMY; ComponentLink1Description: Manufacturer Link; ComponentLink1URL: http://www.atmel.com/products/auto/default.asp?; ComponentLink2Description: U4793B Datasheet; ComponentLink2URL: http://www.atmel.com/dyn/resources/prod_documents/doc4557.pdf; ComponentLink3Description: Atmel.com Home; ComponentLink3URL: http://www.atmel.com
footprint DIP8 (DIP, 8-Leads, Row Spacing 7.62mm, Pitch 2.54mm, Body 9.65x6.3mm)
pins: 1 GND (power), 2 VS (power), 3 OUT2 (out), 4 IN1 (in), 5 OUT1 (out), 6 IN2 (in), 7 VREF (power), 8 IN SW (in)

## U6032B-MFPG3Y
designator U?
Automotive Toggle Switch IC, SO8 Pkg, Taped and Reeled, Pb-Free; Published: 20-Sep-2010; DatasheetVersion: revB, Nov-2005; PackageVersion: rev1, Aug-2006; PackageReference: SO8; Publisher: Altium Limited; PackageDescription: 8-Pin Small Outline Integrated Circuit 1.27 mm Pitch; Supplier 1: Digi-Key; Supplier Part Number 1: U6032B-MFPG3Y-ND; Supplier 2: Mouser; Supplier Part Number 2: 556-U6032BMFPG3Y; ComponentLink1Description: Manufacturer Link; ComponentLink1URL: http://www.atmel.com/products/auto/default.asp?; ComponentLink2Description: U6032B Datasheet; ComponentLink2URL: http://www.atmel.com/dyn/resources/prod_documents/doc4771.pdf; ComponentLink3Description: Atmel.com Home; ComponentLink3URL: http://www.atmel.com
footprint SO8_N (SOIC, 8-Leads, Body 4.9x3.8mm, Pitch 1.27mm, IPC Medium Density)
footprint SO8_L (SOIC, 8-Leads, Body 4.9x3.8mm, Pitch 1.27mm, IPC High Density)
footprint SO8_M (SOIC, 8-Leads, Body 4.9x3.8mm, Pitch 1.27mm, IPC Low Density)
pins: 1 GND (power), 2 RELAY OUT (oc), 3 ON (in), 4 OFF (in), 5 TOGGLE (in), 6 OSC, 7 VSTAB (power), 8 VS (power)

## U6032B-MFPY
designator U?
Automotive Toggle Switch IC, SO8 Pkg, Tubed, Pb-Free; Published: 20-Sep-2010; DatasheetVersion: revB, Nov-2005; PackageVersion: rev1, Aug-2006; PackageReference: SO8; Publisher: Altium Limited; PackageDescription: 8-Pin Small Outline Integrated Circuit 1.27 mm Pitch; Supplier 1: Digi-Key; Supplier Part Number 1: U6032B-MFPY-ND; Supplier 2: Mouser; Supplier Part Number 2: 556-U6032BMFPY; ComponentLink1Description: Manufacturer Link; ComponentLink1URL: http://www.atmel.com/products/auto/default.asp?; ComponentLink2Description: U6032B Datasheet; ComponentLink2URL: http://www.atmel.com/dyn/resources/prod_documents/doc4771.pdf; ComponentLink3Description: Atmel.com Home; ComponentLink3URL: http://www.atmel.com
footprint SO8_N (SOIC, 8-Leads, Body 4.9x3.8mm, Pitch 1.27mm, IPC Medium Density)
footprint SO8_L (SOIC, 8-Leads, Body 4.9x3.8mm, Pitch 1.27mm, IPC High Density)
footprint SO8_M (SOIC, 8-Leads, Body 4.9x3.8mm, Pitch 1.27mm, IPC Low Density)
pins: 1 GND (power), 2 RELAY OUT (oc), 3 ON (in), 4 OFF (in), 5 TOGGLE (in), 6 OSC, 7 VSTAB (power), 8 VS (power)

## U6032B-MY
designator U?
Automotive Toggle Switch IC, DIP8 Pkg, Pb-Free; Published: 20-Sep-2010; DatasheetVersion: revB, Nov-2005; PackageVersion: rev1, Jan-2002; PackageReference: DIP8; Publisher: Altium Limited; PackageDescription: DIP, 8-Pin, Row Spacing 7.62 mm, Pitch 2.54 mm; Supplier 1: Digi-Key; Supplier Part Number 1: U6032B-MY-ND; Supplier 2: Mouser; Supplier Part Number 2: 556-U6032BMY; ComponentLink1Description: Manufacturer Link; ComponentLink1URL: http://www.atmel.com/products/auto/default.asp?; ComponentLink2Description: U6032B Datasheet; ComponentLink2URL: http://www.atmel.com/dyn/resources/prod_documents/doc4771.pdf; ComponentLink3Description: Atmel.com Home; ComponentLink3URL: http://www.atmel.com
footprint DIP8 (DIP, 8-Leads, Row Spacing 7.62mm, Pitch 2.54mm, Body 9.65x6.3mm)
pins: 1 GND (power), 2 RELAY OUT (oc), 3 ON (in), 4 OFF (in), 5 TOGGLE (in), 6 OSC, 7 VSTAB (power), 8 VS (power)

## U6043B-MFPG3Y
designator U?
Flasher IC with 18-mO Shunt, SO8 Pkg, Taped and Reeled, Pb-Free; Published: 20-Sep-2010; DatasheetVersion: revC, Feb-2010; PackageVersion: rev1, Aug-2006; PackageReference: SO8; Publisher: Altium Limited; PackageDescription: 8-Pin Small Outline Integrated Circuit 1.27 mm Pitch; Supplier 1: Digi-Key; Supplier Part Number 1: U6043B-MFPG3Y-ND; Supplier 2: Mouser; Supplier Part Number 2: 556-U6043BMFPG3Y; ComponentLink1Description: Manufacturer Link; ComponentLink1URL: http://www.atmel.com/products/auto/default.asp?; ComponentLink2Description: U6043B Datasheet; ComponentLink2URL: http://www.atmel.com/dyn/resources/prod_documents/doc4726.pdf; ComponentLink3Description: Atmel.com Home; ComponentLink3URL: http://www.atmel.com
footprint SO8_N (SOIC, 8-Leads, Body 4.9x3.8mm, Pitch 1.27mm, IPC Medium Density)
footprint SO8_L (SOIC, 8-Leads, Body 4.9x3.8mm, Pitch 1.27mm, IPC High Density)
footprint SO8_M (SOIC, 8-Leads, Body 4.9x3.8mm, Pitch 1.27mm, IPC Low Density)
pins: 1 GND (power), 2 VS (power), 3 REL (out), 4 OSCC, 5 OSCR, 6 VS (power), 7 LD (in), 8 SI (in)

## U6043B-MFPY
designator U?
Flasher IC with 18-mO Shunt, SO8 Pkg, Tubed, Pb-Free; Published: 20-Sep-2010; DatasheetVersion: revC, Feb-2010; PackageVersion: rev1, Aug-2006; PackageReference: SO8; Publisher: Altium Limited; PackageDescription: 8-Pin Small Outline Integrated Circuit 1.27 mm Pitch; Supplier 1: Digi-Key; Supplier Part Number 1: U6043B-MFPY-ND; Supplier 2: Mouser; Supplier Part Number 2: 556-U6043BMFPY; ComponentLink1Description: Manufacturer Link; ComponentLink1URL: http://www.atmel.com/products/auto/default.asp?; ComponentLink2Description: U6043B Datasheet; ComponentLink2URL: http://www.atmel.com/dyn/resources/prod_documents/doc4726.pdf; ComponentLink3Description: Atmel.com Home; ComponentLink3URL: http://www.atmel.com
footprint SO8_N (SOIC, 8-Leads, Body 4.9x3.8mm, Pitch 1.27mm, IPC Medium Density)
footprint SO8_L (SOIC, 8-Leads, Body 4.9x3.8mm, Pitch 1.27mm, IPC High Density)
footprint SO8_M (SOIC, 8-Leads, Body 4.9x3.8mm, Pitch 1.27mm, IPC Low Density)
pins: 1 GND (power), 2 VS (power), 3 REL (out), 4 OSCC, 5 OSCR, 6 VS (power), 7 LD (in), 8 SI (in)

## U6043B-MY
designator U?
Flasher IC with 18-mO Shunt, DIP8 Pkg, Pb-Free; Published: 20-Sep-2010; DatasheetVersion: revC, Feb-2010; PackageVersion: rev1, Jan-2002; PackageReference: DIP8; Publisher: Altium Limited; PackageDescription: DIP, 8-Pin, Row Spacing 7.62 mm, Pitch 2.54 mm; Supplier 1: Digi-Key; Supplier Part Number 1: U6043B-MY-ND; Supplier 2: Mouser; Supplier Part Number 2: 556-U6043BMY; ComponentLink1Description: Manufacturer Link; ComponentLink1URL: http://www.atmel.com/products/auto/default.asp?; ComponentLink2Description: U6043B Datasheet; ComponentLink2URL: http://www.atmel.com/dyn/resources/prod_documents/doc4726.pdf; ComponentLink3Description: Atmel.com Home; ComponentLink3URL: http://www.atmel.com
footprint DIP8 (DIP, 8-Leads, Row Spacing 7.62mm, Pitch 2.54mm, Body 9.65x6.3mm)
pins: 1 GND (power), 2 VS (power), 3 REL (out), 4 OSCC, 5 OSCR, 6 VS (power), 7 LD (in), 8 SI (in)

## U6046B-MFPG3Y
designator U?
Rear Window Heating Timer/Long-Term Timer, SO8 Pkg, Taped and Reeled, Pb-Free; Published: 20-Sep-2010; DatasheetVersion: revB, Sep-2005; PackageVersion: rev1, Aug-2006; PackageReference: SO8; Publisher: Altium Limited; PackageDescription: 8-Pin Small Outline Integrated Circuit 1.27 mm Pitch; Supplier 1: Digi-Key; Supplier Part Number 1: U6046B-MFPG3Y-ND; Supplier 2: Mouser; Supplier Part Number 2: 556-U6046BMFPG3Y; ComponentLink1Description: Manufacturer Link; ComponentLink1URL: http://www.atmel.com/products/auto/default.asp?; ComponentLink2Description: U6046B Datasheet; ComponentLink2URL: http://www.atmel.com/dyn/resources/prod_documents/doc4674.pdf; ComponentLink3Description: Atmel.com Home; ComponentLink3URL: http://www.atmel.com
footprint SO8_N (SOIC, 8-Leads, Body 4.9x3.8mm, Pitch 1.27mm, IPC Medium Density)
footprint SO8_L (SOIC, 8-Leads, Body 4.9x3.8mm, Pitch 1.27mm, IPC High Density)
footprint SO8_M (SOIC, 8-Leads, Body 4.9x3.8mm, Pitch 1.27mm, IPC Low Density)
pins: 1 GND (power), 2 RELAY OUT (oc), 3 ON (in), 4 OFF (in), 5 TOGGLE (in), 6 OSC, 7 VSTAB (power), 8 VS (power)